# EAGLE library part STM32F103RBTXX (library dp_devices)
32-bit ARM-based MCU with 64 or 128KB Flash
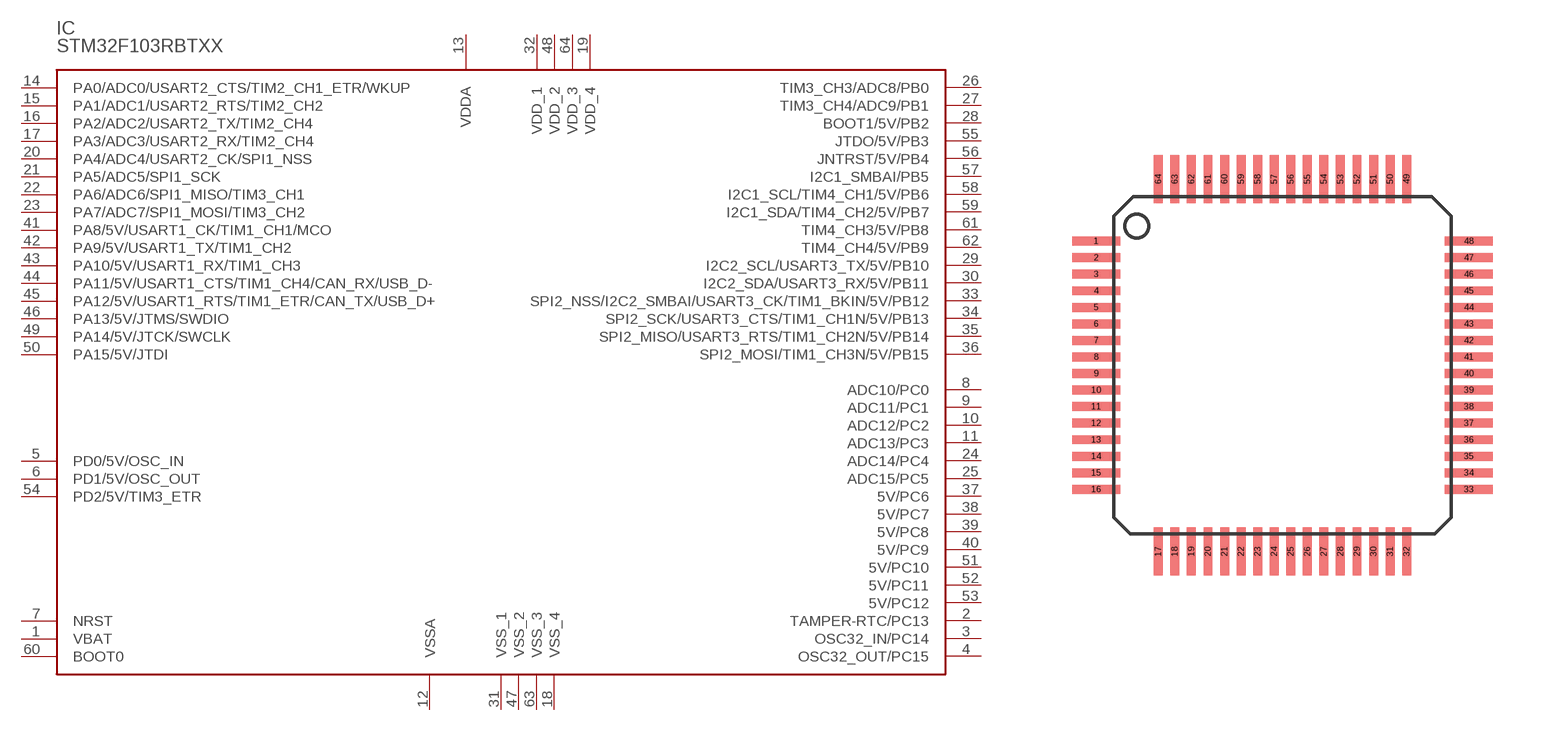
[diagram p55: symbol with the pads of LQFP64; footprint LQFP64]

Designator prefix IC

## STM32F103RBTXX-LQFP64  [LQFP64]
1  VBAT  pwr
2  TAMPER-RTC/PC13
3  OSC32_IN/PC14
4  OSC32_OUT/PC15
5  PD0/5V/OSC_IN  in
6  PD1/5V/OSC_OUT  out
7  NRST
8  ADC10/PC0
9  ADC11/PC1
10  ADC12/PC2
11  ADC13/PC3
12  VSSA  sup
13  VDDA  pwr
14  PA0/ADC0/USART2_CTS/TIM2_CH1_ETR/WKUP
15  PA1/ADC1/USART2_RTS/TIM2_CH2
16  PA2/ADC2/USART2_TX/TIM2_CH4
17  PA3/ADC3/USART2_RX/TIM2_CH4
18  VSS_4  sup
19  VDD_4  pwr
20  PA4/ADC4/USART2_CK/SPI1_NSS
21  PA5/ADC5/SPI1_SCK
22  PA6/ADC6/SPI1_MISO/TIM3_CH1
23  PA7/ADC7/SPI1_MOSI/TIM3_CH2
24  ADC14/PC4
25  ADC15/PC5
26  TIM3_CH3/ADC8/PB0
27  TIM3_CH4/ADC9/PB1
28  BOOT1/5V/PB2
29  I2C2_SCL/USART3_TX/5V/PB10
30  I2C2_SDA/USART3_RX/5V/PB11
31  VSS_1  sup
32  VDD_1  pwr
33  SPI2_NSS/I2C2_SMBAI/USART3_CK/TIM1_BKIN/5V/PB12
34  SPI2_SCK/USART3_CTS/TIM1_CH1N/5V/PB13
35  SPI2_MISO/USART3_RTS/TIM1_CH2N/5V/PB14
36  SPI2_MOSI/TIM1_CH3N/5V/PB15
37  5V/PC6
38  5V/PC7
39  5V/PC8
40  5V/PC9
41  PA8/5V/USART1_CK/TIM1_CH1/MCO
42  PA9/5V/USART1_TX/TIM1_CH2
43  PA10/5V/USART1_RX/TIM1_CH3
44  PA11/5V/USART1_CTS/TIM1_CH4/CAN_RX/USB_D-
45  PA12/5V/USART1_RTS/TIM1_ETR/CAN_TX/USB_D+
46  PA13/5V/JTMS/SWDIO
47  VSS_2  sup
48  VDD_2  pwr
49  PA14/5V/JTCK/SWCLK
50  PA15/5V/JTDI
51  5V/PC10
52  5V/PC11
53  5V/PC12
54  PD2/5V/TIM3_ETR
55  JTDO/5V/PB3
56  JNTRST/5V/PB4
57  I2C1_SMBAI/PB5
58  I2C1_SCL/TIM4_CH1/5V/PB6
59  I2C1_SDA/TIM4_CH2/5V/PB7
60  BOOT0  in
61  TIM4_CH3/5V/PB8
62  TIM4_CH4/5V/PB9
63  VSS_3  sup
64  VDD_3  pwr

## Footprint LQFP64 (pad centres in mm)
LQFP64 Richard Myrick T. Arellaga March2010
smd 1.45 x 0.27: 1 -5.625,3.75; 2 -5.625,3.25; 3 -5.625,2.75; 4 -5.625,2.25; 5 -5.625,1.75; 6 -5.625,1.25; 7 -5.625,0.75; 8 -5.625,0.25; 9 -5.625,-0.25; 10 -5.625,-0.75; 11 -5.625,-1.25; 12 -5.625,-1.75; 13 -5.625,-2.25; 14 -5.625,-2.75; 15 -5.625,-3.25; 16 -5.625,-3.75; 33 5.625,-3.75; 34 5.625,-3.25; 35 5.625,-2.75; 36 5.625,-2.25; 37 5.625,-1.75; 38 5.625,-1.25; 39 5.625,-0.75; 40 5.625,-0.25; 41 5.625,0.25; 42 5.625,0.75; 43 5.625,1.25; 44 5.625,1.75; 45 5.625,2.25; 46 5.625,2.75; 47 5.625,3.25; 48 5.625,3.75
smd 0.27 x 1.45: 17 -3.75,-5.625; 18 -3.25,-5.625; 19 -2.75,-5.625; 20 -2.25,-5.625; 21 -1.75,-5.625; 22 -1.25,-5.625; 23 -0.75,-5.625; 24 -0.25,-5.625; 25 0.25,-5.625; 26 0.75,-5.625; 27 1.25,-5.625; 28 1.75,-5.625; 29 2.25,-5.625; 30 2.75,-5.625; 31 3.25,-5.625; 32 3.75,-5.625; 49 3.75,5.625; 50 3.25,5.625; 51 2.75,5.625; 52 2.25,5.625; 53 1.75,5.625; 54 1.25,5.625; 55 0.75,5.625; 56 0.25,5.625; 57 -0.25,5.625; 58 -0.75,5.625; 59 -1.25,5.625; 60 -1.75,5.625; 61 -2.25,5.625; 62 -2.75,5.625; 63 -3.25,5.625; 64 -3.75,5.625